# EAGLE library part SWITCH-DPDT-SMT-RA (library FlashPCB_Switches)
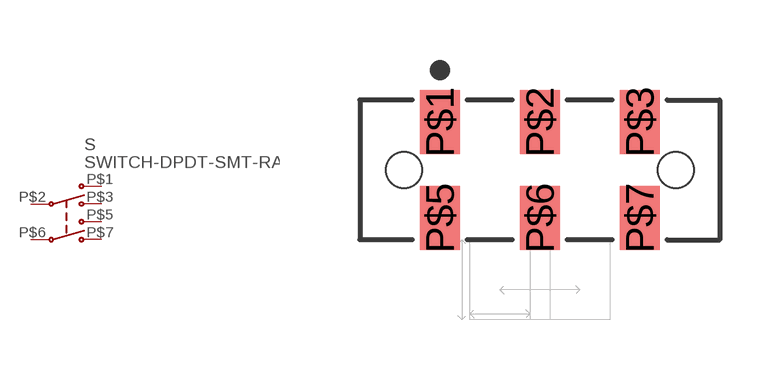
[diagram p3: symbol with the pads of SWITCH-SLIDE-SMT-RA-DPDT-JS202011JAQN; footprint SWITCH-SLIDE-SMT-RA-DPDT-JS202011JAQN]

Designator prefix S

## SWITCH-DPDT-SMT-RAJS202011JAQN  [SWITCH-SLIDE-SMT-RA-DPDT-JS202011JAQN]
P$1  P$2
P$2  P$1
P$3  P$3
P$5  P$5
P$6  P$4
P$7  P$6

## Footprint SWITCH-SLIDE-SMT-RA-DPDT-JS202011JAQN (pad centres in mm)
smd 1 x 1.6: P$1 -2.5,1.2; P$2 0,1.2; P$3 2.5,1.2; P$5 -2.5,-1.2; P$6 0,-1.2; P$7 2.5,-1.2
hole 0.9 at -3.4,0
hole 0.9 at 3.4,0